# Altium footprint library PcbLib1.PcbLib: 1 footprints
Each footprint in its own frame and in the unit in brackets; x right, y up, seen from the top. Pads: shape width x height; smd on the part's side, far side on the other; paste and mask are expansions set on the pad; w line width, h text height; cw(c..) or ccw(c..) is an arc to the next point about the centre after c.
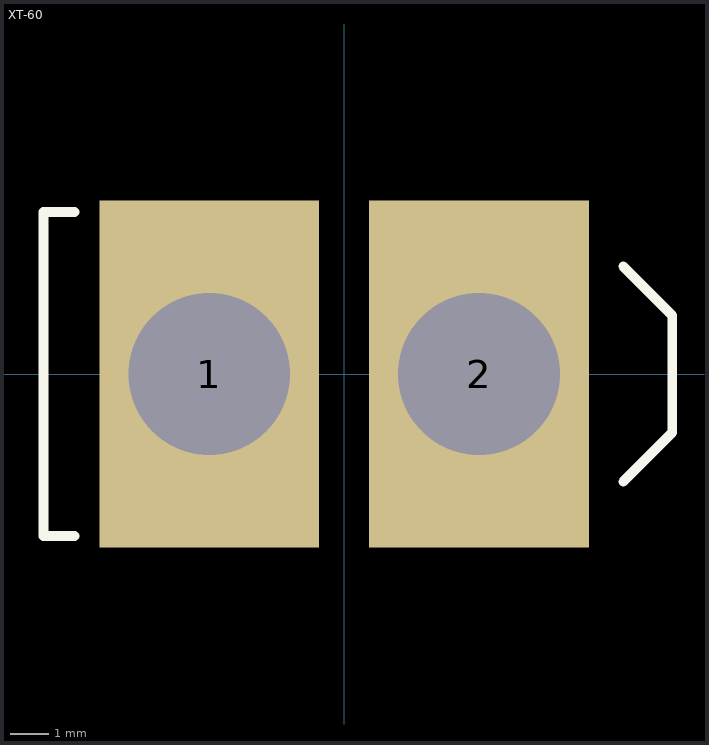
[diagram p0: the footprint, top view; thin cyan lines are the x and y axes]

## XT-60 [mm]
pads (2):
  rect 5.7x9 hole 4.2: 1(-3.5,0) 2(3.5,0)
Top Overlay:
  lines w0.254: -6.994,-4.2 -7.8,-4.2 -7.8,4.2 -6.994,4.2 ; 7.239,-2.794 8.509,-1.524 8.509,1.524 7.239,2.794
3D body "User Library-XT60 female.step": height 18.21, standoff -3.99, extent -7.75,-4.05 8.15,4.1